# Altium footprint library All.PcbLib: 121 footprints (part 7 of 8)
Each footprint in its own frame and in the unit in brackets; x right, y up, seen from the top. Pads: shape width x height; smd on the part's side, far side on the other; paste and mask are expansions set on the pad; w line width, h text height; cw(c..) or ccw(c..) is an arc to the next point about the centre after c.
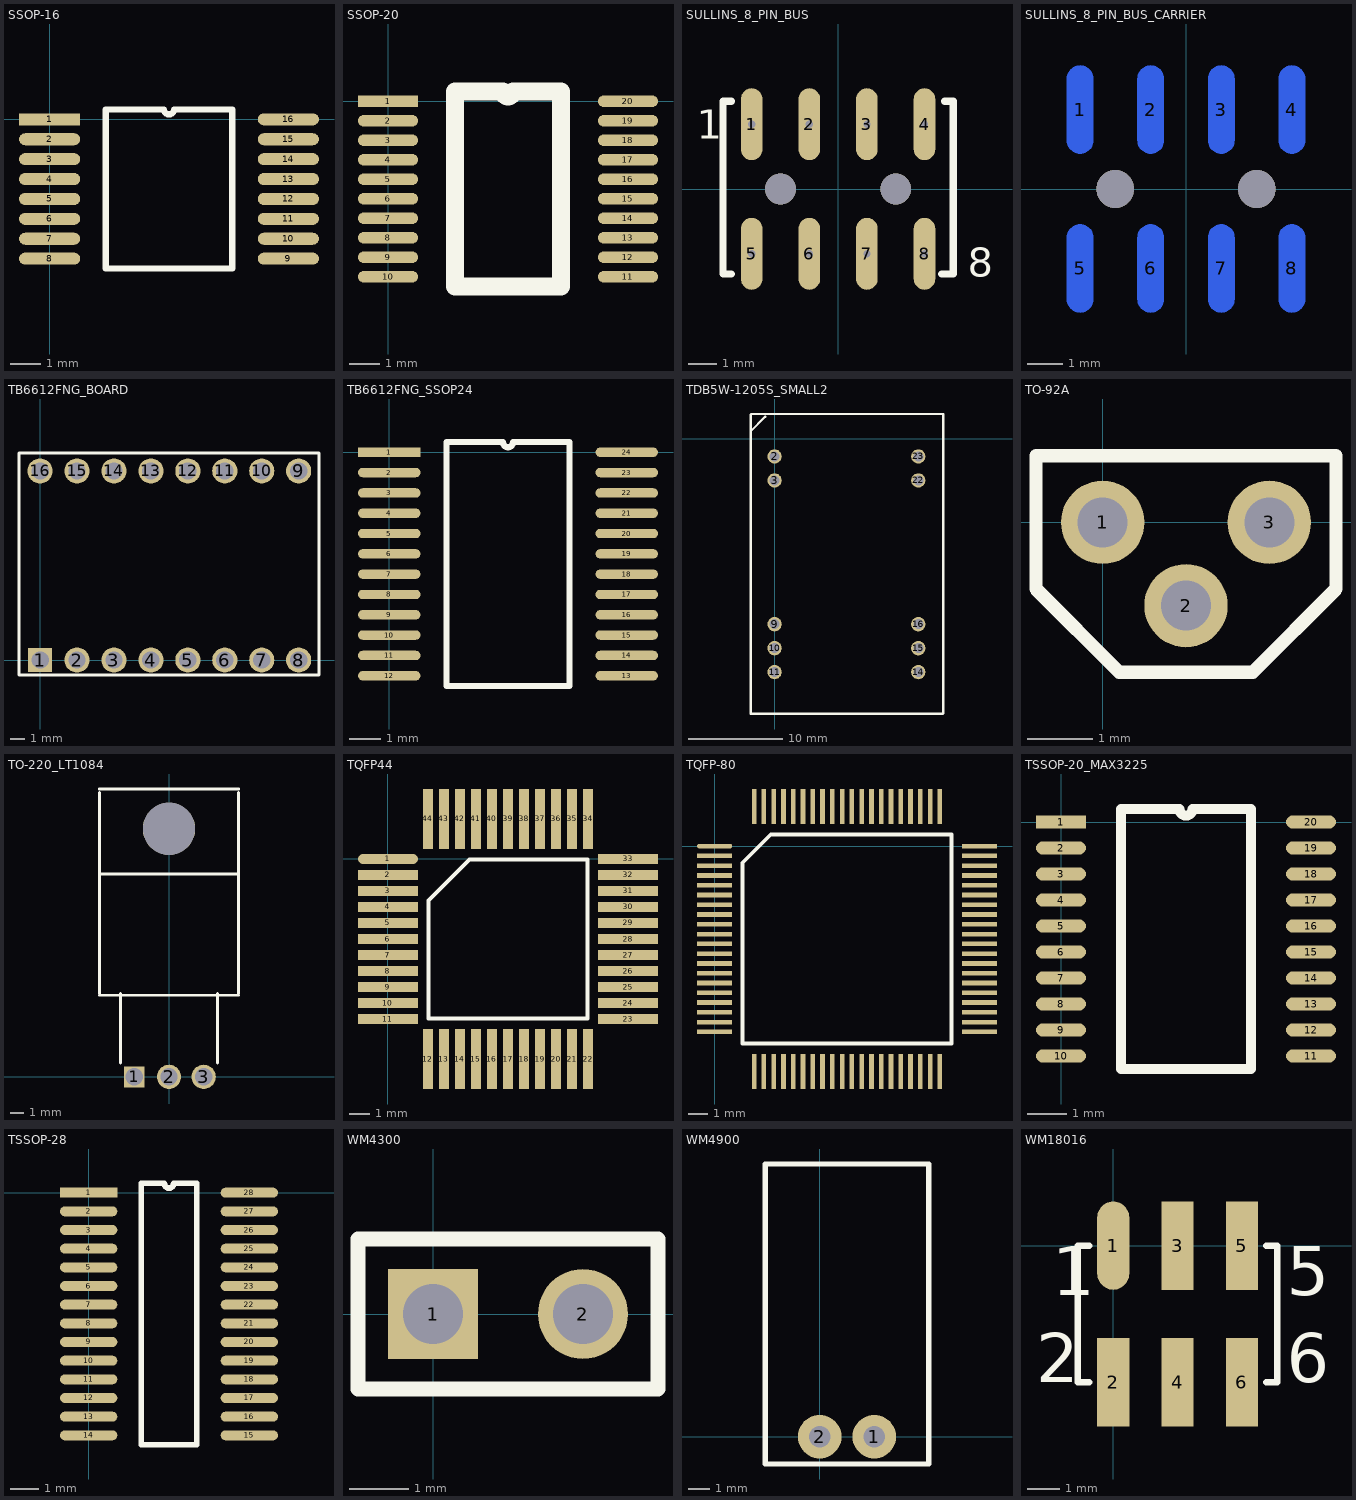
[diagram p6: the footprints below, top view; thin cyan lines are the x and y axes]

## SSOP-16 [mm]
pads (16):
  rect 2x0.394 smd: 1(0,0)
  oval 2x0.394 smd: 2(0,-0.65) 3(0,-1.3) 4(0,-1.95) 5(0,-2.6) 6(0,-3.25) 7(0,-3.9) 8(0,-4.55) 9(7.8,-4.55) 10(7.8,-3.9) 11(7.8,-3.25) 12(7.8,-2.6) 13(7.8,-1.95) 14(7.8,-1.3) 15(7.8,-0.65) 16(7.8,0)
Top Overlay:
  lines w0.2: 1.835,-4.875 5.965,-4.875 5.965,0.325 4.062,0.325 cw(c3.9,0.325) 3.738,0.325 1.835,0.325 1.835,-4.875

## SSOP-20 [mm]
pads (20):
  rect 2x0.38 smd: 1(0,0)
  oval 2x0.38 smd: 2(0,-0.65) 3(0,-1.3) 4(0,-1.95) 5(0,-2.6) 6(0,-3.25) 7(0,-3.9) 8(0,-4.55) 9(0,-5.2) 10(0,-5.85) 11(8,-5.85) 12(8,-5.2) 13(8,-4.55) 14(8,-3.9) 15(8,-3.25) 16(8,-2.6) 17(8,-1.95) 18(8,-1.3) 19(8,-0.65) 20(8,0)
Top Overlay:
  lines w0.6: 2.235,-6.175 2.235,0.325 3.838,0.325 ccw(c4,0.325) 4.162,0.325 5.765,0.325 5.765,-6.175 2.235,-6.175

## SULLINS_8_PIN_BUS [mm]
pads (8):
  oval 0.75x2.5 hole 0.254: 1(-3,2.25) 2(-1,2.25) 3(1,2.25) 4(3,2.25) 5(-3,-2.25) 6(-1,-2.25) 7(1,-2.25) 8(3,-2.25)
via 2,0 diameter 1.067 hole 1.067
via -2,0 diameter 1.067 hole 1.067
Top Overlay:
  lines w0.254: -3.7,-2.95 -4,-2.95 -4,3.05 -3.7,3.05 ; 3.6,-2.95 4,-2.95 4,3.05 3.7,3.05
  text "1" at -4.9,1.75 h1.02
  text "8" at 4.5,-3.05 h1.02
Bottom Overlay:
  lines w0.254: -3.7,-2.95 -4,-2.95 -4,3.05 -3.7,3.05 ; 3.7,-2.95 4,-2.95 4,3.05 3.7,3.05
  text "8" at 4.5,-3.05 h1.02
  text "1" at -4.9,1.75 h1.02

## SULLINS_8_PIN_BUS_CARRIER [mm]
pads (8):
  oval 0.75x2.5 smd far side: 1(-3,2.25) 2(-1,2.25) 3(1,2.25) 4(3,2.25) 5(-3,-2.25) 6(-1,-2.25) 7(1,-2.25) 8(3,-2.25)
via 2,0 diameter 1.067 hole 1.067
via -2,0 diameter 1.067 hole 1.067
Bottom Overlay:
  lines w0.254: -4,3.05 -4,-2.95 -3.7,-2.95 ; -4,3.1 -3.7,3.1 ; 3.7,-2.9 4,-2.9 4,3.1 3.7,3.1
  text "8" at 4.5,-3.05 h1.02
  text "1" at -4.9,1.75 h1.02

## TB6612FNG_BOARD [mil]
pads (16):
  rect 65x65 hole 47: 1(0,0)
  round 68 hole 47: 2(100,0) 3(200,0) 4(300,0) 5(400,0) 6(500,0) 7(600,0) 8(700,0) 9(700,511.81) 10(600,511.81) 11(500,511.81) 12(400,511.81) 13(300,511.81) 14(200,511.81) 15(100,511.81) 16(0,511.81)
Top Overlay:
  lines w8: -57.13,-40 -57.13,560 755,560 755,-40 -57.13,-40

## TB6612FNG_SSOP24 [mm]
pads (24):
  rect 2x0.3 smd: 1(0,0)
  oval 2x0.3 smd: 2(0,-0.65) 3(0,-1.3) 4(0,-1.95) 5(0,-2.6) 6(0,-3.25) 7(0,-3.9) 8(0,-4.55) 9(0,-5.2) 10(0,-5.85) 11(0,-6.5) 12(0,-7.15) 13(7.6,-7.15) 14(7.6,-6.5) 15(7.6,-5.85) 16(7.6,-5.2) 17(7.6,-4.55) 18(7.6,-3.9) 19(7.6,-3.25) 20(7.6,-2.6) 21(7.6,-1.95) 22(7.6,-1.3) 23(7.6,-0.65) 24(7.6,0)
Top Overlay:
  lines w0.2: 1.835,-7.475 1.835,0.325 3.638,0.325 ccw(c3.8,0.325) 3.962,0.325 5.765,0.325 5.765,-7.475 1.835,-7.475

## TDB5W-1205S_SMALL2 [mil]
pads (10):
  round 60 hole 42: 2(0,-75) 3(0,-175) 9(0,-775) 10(0,-875) 11(0,-975) 14(600,-975) 15(600,-875) 16(600,-775) 22(600,-175) 23(600,-75)
Top Overlay:
  lines w10: -100,-1150 -100,100 ; -99.37,30.55 -39.37,90.55 ; -98.42,-1149.61 701.58,-1149.61 ; -98.42,102.36 701.58,102.36 ; 704.72,-1147.64 704.72,102.36

## TO-92A [mil]
pads (3):
  round 50 hole 30: 1(0,0) 2(50,-50) 3(100,0)
Top Overlay:
  lines w8: -40,-40 10,-90 90,-90 140,-40 140,40 -40,40 -40,-40

## TO-220_LT1084 [mil] "TO-220 for LT1084 Voltage Regulator"
height 17.25
pads (4):
  rect 60x60 hole 50: 1(-100,0)
  round 70 hole 50: 2(0,0) 3(100,0)
  round 151 hole 151: ""(0,715)
Top Overlay:
  lines w8: -201.25,235 201.25,235 ; -201.25,585 201.25,585 ; -201.25,830 201.25,830 ; -200,240 -200,820 ; -140,40 -140,240 ; 140,40 140,240 ; 200,241.26 200,820

## TQFP44 [mm]
pads (44):
  oval 3x0.5 smd: 1(0,0)
  rect 3x0.5 smd: 2(0,-0.8) 3(0,-1.6) 4(0,-2.4) 5(0,-3.2) 6(0,-4) 7(0,-4.8) 8(0,-5.6) 9(0,-6.4) 10(0,-7.2) 11(0,-8) 23(12,-8) 24(12,-7.2) 25(12,-6.4) 26(12,-5.6) 27(12,-4.8) 28(12,-4) 29(12,-3.2) 30(12,-2.4) 31(12,-1.6) 32(12,-0.8) 33(12,0)
  rect 0.5x3 smd: 12(2,-10) 13(2.8,-10) 14(3.6,-10) 15(4.4,-10) 16(5.2,-10) 17(6,-10) 18(6.8,-10) 19(7.6,-10) 20(8.4,-10) 21(9.2,-10) 22(10,-10) 34(10,2) 35(9.2,2) 36(8.4,2) 37(7.6,2) 38(6.8,2) 39(6,2) 40(5.2,2) 41(4.4,2) 42(3.6,2) 43(2.8,2) 44(2,2)
Top Overlay:
  lines w0.2: 2.035,-7.965 2.035,-2.07 4.07,-0.035 9.965,-0.035 9.965,-7.965 2.035,-7.965

## TQFP-80 [mm]
pads (80):
  oval 1.8x0.24 smd: 1(0,0)
  rect 1.8x0.24 smd: 2(0,-0.5) 3(0,-1) 4(0,-1.5) 5(0,-2) 6(0,-2.5) 7(0,-3) 8(0,-3.5) 9(0,-4) 10(0,-4.5) 11(0,-5) 12(0,-5.5) 13(0,-6) 14(0,-6.5) 15(0,-7) 16(0,-7.5) 17(0,-8) 18(0,-8.5) 19(0,-9) 20(0,-9.5) 41(13.54,-9.5) 42(13.54,-9) 43(13.54,-8.5) 44(13.54,-8) 45(13.54,-7.5) 46(13.54,-7) 47(13.54,-6.5) 48(13.54,-6) 49(13.54,-5.5) 50(13.54,-5) 51(13.54,-4.5) 52(13.54,-4) 53(13.54,-3.5) 54(13.54,-3) 55(13.54,-2.5) 56(13.54,-2) 57(13.54,-1.5) 58(13.54,-1) 59(13.54,-0.5) 60(13.54,0)
  rect 0.24x1.8 smd: 21(2.02,-11.52) 22(2.52,-11.52) 23(3.02,-11.52) 24(3.52,-11.52) 25(4.02,-11.52) 26(4.52,-11.52) 27(5.02,-11.52) 28(5.52,-11.52) 29(6.02,-11.52) 30(6.52,-11.52) 31(7.02,-11.52) 32(7.52,-11.52) 33(8.02,-11.52) 34(8.52,-11.52) 35(9.02,-11.52) 36(9.52,-11.52) 37(10.02,-11.52) 38(10.52,-11.52) 39(11.02,-11.52) 40(11.52,-11.52) 61(11.52,2.02) 62(11.02,2.02) 63(10.52,2.02) 64(10.02,2.02) 65(9.52,2.02) 66(9.02,2.02) 67(8.52,2.02) 68(8.02,2.02) 69(7.52,2.02) 70(7.02,2.02) 71(6.52,2.02) 72(6.02,2.02) 73(5.52,2.02) 74(5.02,2.02) 75(4.52,2.02) 76(4.02,2.02) 77(3.52,2.02) 78(3.02,2.02) 79(2.52,2.02) 80(2.02,2.02)
Top Overlay:
  lines w0.2: 1.435,-10.085 12.105,-10.085 12.105,0.585 2.87,0.585 1.435,-0.85 1.435,-10.085

## TSSOP-20_MAX3225 [mil]
pads (20):
  rect 50x13 smd: 1(0,0)
  oval 50x13 smd: 2(0,-26) 3(0,-52) 4(0,-78) 5(0,-104) 6(0,-130) 7(0,-156) 8(0,-182) 9(0,-208) 10(0,-234) 11(250,-234) 12(250,-208) 13(250,-182) 14(250,-156) 15(250,-130) 16(250,-104) 17(250,-78) 18(250,-52) 19(250,-26) 20(250,0)
Top Overlay:
  lines w10: 60,-247 190,-247 190,13 131.5,13 cw(c125,13) 118.5,13 60,13 60,-247

## TSSOP-28 [mm]
pads (28):
  rect 2x0.35 smd: 1(0,0)
  oval 2x0.35 smd: 2(0,-0.65) 3(0,-1.3) 4(0,-1.95) 5(0,-2.6) 6(0,-3.25) 7(0,-3.9) 8(0,-4.55) 9(0,-5.2) 10(0,-5.85) 11(0,-6.5) 12(0,-7.15) 13(0,-7.8) 14(0,-8.45) 15(5.6,-8.45) 16(5.6,-7.8) 17(5.6,-7.15) 18(5.6,-6.5) 19(5.6,-5.85) 20(5.6,-5.2) 21(5.6,-4.55) 22(5.6,-3.9) 23(5.6,-3.25) 24(5.6,-2.6) 25(5.6,-1.95) 26(5.6,-1.3) 27(5.6,-0.65) 28(5.6,0)
Top Overlay:
  lines w0.2: 1.835,-8.775 1.835,0.325 2.638,0.325 ccw(c2.8,0.325) 2.963,0.325 3.765,0.325 3.765,-8.775 1.835,-8.775

## WM4300 [mil]
pads (2):
  rect 60x60 hole 40: 1(0,0)
  round 60 hole 40: 2(100,0)
Top Overlay:
  lines w10: -50,-50 150,-50 150,50 -50,50 -50,-50

## WM4900 [mil]
pads (2):
  round 80 hole 40: 1(100,0) 2(0,0)
Top Overlay:
  lines w10: -100,-50 200,-50 200,500 -100,500 -100,-50

## WM18016 [mm]
pads (6):
  oval 1x2.75 smd: 1(0,0)
  rect 1x2.75 smd: 2(0,-4.25) 3(2,0) 4(2,-4.25) 5(4,0) 6(4,-4.25)
Top Overlay:
  lines w0.203: -0.75,-4.25 -1.1,-4.25 -1.1,0 -0.75,0 ; 4.75,-4.25 5.1,-4.25 5.1,0 4.75,0
  text "5" at 5.4,-1.55 h1.52
  text "2" at -2.4,-4.25 h1.52
  text "1" at -1.9,-1.55 h1.52
  text "6" at 5.4,-4.25 h1.52